# Altium footprint library AnyComponent.PcbLib: 2 footprints
Each footprint in its own frame and in the unit in brackets; x right, y up, seen from the top. Pads: shape width x height; smd on the part's side, far side on the other; paste and mask are expansions set on the pad; w line width, h text height; cw(c..) or ccw(c..) is an arc to the next point about the centre after c.
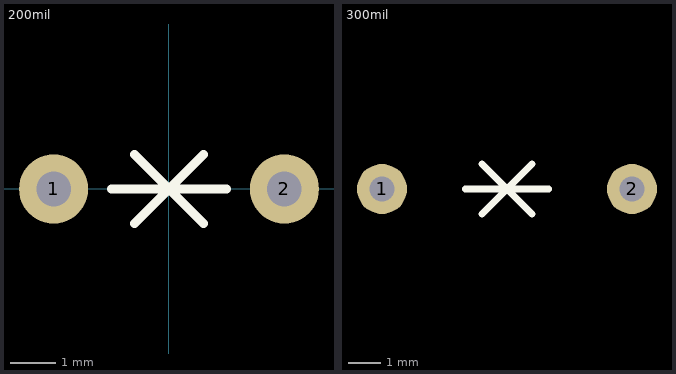
[diagram p0: the footprints below, top view; thin cyan lines are the x and y axes]

## 200mil [mil]
pads (2):
  round 60 hole 30: 1(-100,0) 2(100,0)
Top Overlay:
  lines w7.87: -50,0 50,0 ; -30,-30 30,30 ; -30,30 30,-30

## 300mil [mil]
pads (2):
  round 60 hole 30: 1(100,1600) 2(400,1600)
Top Overlay:
  lines w7.87: 200,1600 300,1600 ; 220,1570 280,1630 ; 220,1630 280,1570